# Altium integrated library GBU606.IntLib: 1 symbol
Pins are listed as number, name and electrical type; pins without a type are passive.

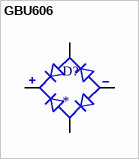
[diagram p0: symbol GBU606]

## GBU606
designator D?
6A 600V Bridge Rectifier Case GBU | Diodes Inc GBU606; MF: Diodes Inc.; SnapEDA_Link: https://www.snapeda.com/parts/GBU606/Diodes+Inc./view-part/?ref=snap; Package: SIP-4 Diodes Incorporated; Value: *; MP: GBU606; Check_prices: https://www.snapeda.com/parts/GBU606/Diodes+Inc./view-part/?ref=eda
footprint SIP343W114P508L2205H2134Q4
pins: AC1, AC2, NEG, POS